# Altium footprint library PcbLib.PcbLib: 2 footprints
Each footprint in its own frame and in the unit in brackets; x right, y up, seen from the top. Pads: shape width x height; smd on the part's side, far side on the other; paste and mask are expansions set on the pad; w line width, h text height; cw(c..) or ccw(c..) is an arc to the next point about the centre after c.
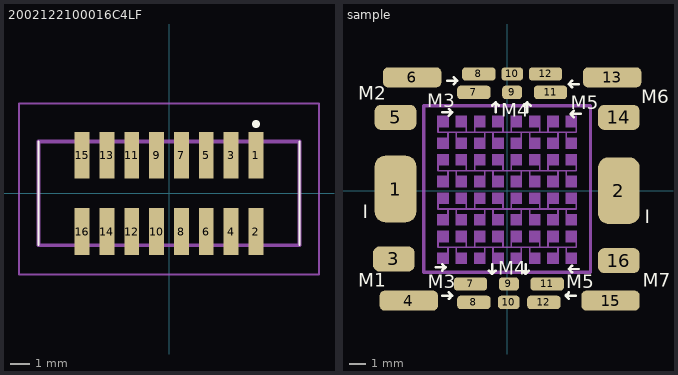
[diagram p0: the footprints below, top view; thin cyan lines are the x and y axes]

## 2002122100016C4LF [mm]
pads (16):
  rect 0.76x2.4 smd: 1(4.445,1.95) 2(4.445,-1.95) 3(3.175,1.95) 4(3.175,-1.95) 5(1.905,1.95) 6(1.905,-1.95) 7(0.635,1.95) 8(0.635,-1.95) 9(-0.635,1.95) 10(-0.635,-1.95) 11(-1.905,1.95) 12(-1.905,-1.95) 13(-3.175,1.95) 14(-3.175,-1.95) 15(-4.445,1.95) 16(-4.445,-1.95)
Top Overlay:
  lines w0.1: -6.67,-2.65 -6.67,2.65 ; 6.67,-2.65 6.67,2.65
  lines w0.3: 4.445,3.5 cw(c4.445,3.55) 4.445,3.6 cw(c4.445,3.55) 4.445,3.5
Mechanical 13:
  lines w0.2: -6.67,-2.65 -6.67,2.65 6.67,2.65 6.67,-2.65 -6.67,-2.65
Mechanical 15:
  lines w0.1: -7.67,-4.15 -7.67,4.6 7.67,4.6 7.67,-4.15 -7.67,-4.15
3D body "20021221-00016C4LF.stp": height 5.9, standoff 0, extent -6.67,-3.074 6.67,3.074

## sample [mm]
pads (22):
  rrect50% 2.5x4 smd: 1(-6.7,0.1) 2(6.7,0)
  rrect50% 2.5x1.5 smd: 3(-6.8,-4.1) 5(-6.7,4.4) 14(6.7,4.4) 16(6.7,-4.2)
  rrect50% 3.5x1.2 smd: 4(-5.9,-6.6) 6(-5.7,6.8) 13(6.3,6.8) 15(6.2,-6.6)
  rrect50% 2x0.8 smd: 7(-2.2,-5.6) 7(-2,5.9) 8(-2,-6.7) 8(-1.7,7) 11(2.4,-5.6) 11(2.6,5.9) 12(2.2,-6.7) 12(2.3,7)
  rrect50% 1.2x0.8 smd: 9(0.1,-5.6) 9(0.3,5.9)
  rrect50% 1.3x0.8 smd: 10(0.1,-6.7) 10(0.3,7)
Top Overlay:
  lines w0.15: -4.3,-4.6 -3.7,-4.6 ; -3.9,-6.3 -3.3,-6.3 ; -3.9,-4.8 -3.7,-4.6 ; -3.9,-4.4 -3.7,-4.6 ; -3.9,4.7 -3.3,4.7 ; -3.6,6.6 -3,6.6 ; -3.5,-6.5 -3.3,-6.3 ; -3.5,-6.1 -3.3,-6.3 ; -3.5,4.5 -3.3,4.7 ; -3.5,4.9 -3.3,4.7 ; -3.2,6.4 -3,6.6 ; -3.2,6.8 -3,6.6 ; -1.1,-4.8 -0.9,-5 ; -0.9,-4.4 -0.9,-5 ; -0.9,5.1 -0.7,5.3 ; -0.7,-4.8 -0.9,-5 ; -0.7,4.7 -0.7,5.3 ; -0.5,5.1 -0.7,5.3 ; 0.9,-4.8 1.1,-5 ; 1,5.1 1.2,5.3 ; 1.1,-4.4 1.1,-5 ; 1.2,4.7 1.2,5.3 ; 1.3,-4.8 1.1,-5 ; 1.4,5.1 1.2,5.3 ; 3.7,-6.5 3.5,-6.3 ; 3.7,-6.1 3.5,-6.3 ; 3.9,-4.9 3.7,-4.7 ; 3.9,-4.5 3.7,-4.7 ; 3.9,6.2 3.7,6.4 ; 3.9,6.6 3.7,6.4 ; 4,4.4 3.8,4.6 ; 4,4.8 3.8,4.6 ; 4.1,-6.3 3.5,-6.3 ; 4.3,-4.7 3.7,-4.7 ; 4.3,6.4 3.7,6.4 ; 4.4,4.6 3.8,4.6
  text "M5" at 3.55,-5.85 h0.8
  text "M7" at 8.15,-5.75 h0.8
  text "M6" at 8.05,5.25 h0.8
  text "M4" at -0.35,4.45 h0.8
  text "M3" at -4.792,5.016 h0.8
  text "M1" at -8.95,-5.75 h0.8
  text "M2" at -8.95,5.45 h0.8
  text "M3" at -4.75,-5.85 h0.8
  text "M4" at -0.55,-5.05 h0.8
  text "M5" at 3.8,4.9 h0.8
  text "I" at -8.65,-1.65 h0.8
  text "I" at 8.25,-1.95 h0.8
Mechanical 13:
  lines w0.2: -5,-4.9 5,-4.9 5,5.1 -5,5.1 -5,-4.9
Mechanical 15:
  rectangle: 2.4,3.8 3.1,4.5
  rectangle: 3.5,-3.1 4.2,-2.4
  rectangle: 3.5,-4.4 4.2,-3.7
  rectangle: -4.2,-3.1 -3.5,-2.4
  rectangle: -2,-3.1 -1.3,-2.4
  rectangle: -4.2,-4.4 -3.5,-3.7
  rectangle: -2,-4.4 -1.3,-3.7
  rectangle: 2.4,-3.1 3.1,-2.4
  rectangle: 2.4,-4.4 3.1,-3.7
  rectangle: 0.2,-3.1 0.9,-2.4
  rectangle: 1.3,-3.1 2,-2.4
  rectangle: 0.2,-4.4 0.9,-3.7
  rectangle: 1.3,-4.4 2,-3.7
  rectangle: -0.9,-3.1 -0.2,-2.4
  rectangle: -0.9,-4.4 -0.2,-3.7
  rectangle: -3.1,-3.1 -2.4,-2.4
  rectangle: -3.1,-4.4 -2.4,-3.7
  rectangle: 3.5,-0.8 4.2,-0.1
  rectangle: 3.5,-2.1 4.2,-1.4
  rectangle: -4.2,-0.8 -3.5,-0.1
  rectangle: -2,-0.8 -1.3,-0.1
  rectangle: -4.2,-2.1 -3.5,-1.4
  rectangle: -2,-2.1 -1.3,-1.4
  rectangle: 2.4,-0.8 3.1,-0.1
  rectangle: 2.4,-2.1 3.1,-1.4
  rectangle: 0.2,-0.8 0.9,-0.1
  rectangle: 1.3,-0.8 2,-0.1
  rectangle: 0.2,-2.1 0.9,-1.4
  rectangle: 1.3,-2.1 2,-1.4
  rectangle: -0.9,-0.8 -0.2,-0.1
  rectangle: -0.9,-2.1 -0.2,-1.4
  rectangle: -3.1,-0.8 -2.4,-0.1
  rectangle: -3.1,-2.1 -2.4,-1.4
  rectangle: 3.5,1.5 4.2,2.2
  rectangle: 3.5,0.2 4.2,0.9
  rectangle: -4.2,1.5 -3.5,2.2
  rectangle: -2,1.5 -1.3,2.2
  rectangle: -4.2,0.2 -3.5,0.9
  rectangle: -2,0.2 -1.3,0.9
  rectangle: 2.4,1.5 3.1,2.2
  rectangle: 2.4,0.2 3.1,0.9
  rectangle: 0.2,1.5 0.9,2.2
  rectangle: 1.3,1.5 2,2.2
  rectangle: 0.2,0.2 0.9,0.9
  rectangle: 1.3,0.2 2,0.9
  rectangle: -0.9,1.5 -0.2,2.2
  rectangle: -0.9,0.2 -0.2,0.9
  rectangle: -3.1,1.5 -2.4,2.2
  rectangle: -3.1,0.2 -2.4,0.9
  rectangle: 3.5,3.8 4.2,4.5
  rectangle: 3.5,2.5 4.2,3.2
  rectangle: -4.2,3.8 -3.5,4.5
  rectangle: -2,3.8 -1.3,4.5
  rectangle: -4.2,2.5 -3.5,3.2
  rectangle: -2,2.5 -1.3,3.2
  rectangle: 2.4,2.5 3.1,3.2
  rectangle: 0.2,3.8 0.9,4.5
  rectangle: 1.3,3.8 2,4.5
  rectangle: 0.2,2.5 0.9,3.2
  rectangle: 1.3,2.5 2,3.2
  rectangle: -0.9,3.8 -0.2,4.5
  rectangle: -0.9,2.5 -0.2,3.2
  rectangle: -3.1,3.8 -2.4,4.5
  rectangle: -3.1,2.5 -2.4,3.2
  lines w0.1: -4.15,-3.1 -4.15,-3.4 4.15,-3.4 4.15,-3.1 ; -4.15,-0.8 -4.15,-1.1 4.15,-1.1 4.15,-0.8 ; -4.15,1.5 -4.15,1.2 4.15,1.2 4.15,1.5 ; -4.15,3.8 -4.15,3.5 4.15,3.5 4.15,3.8 ; -3.55,-3.7 -3.55,-3.4 ; -3.55,-1.4 -3.55,-1.1 ; -3.55,0.9 -3.55,1.2 ; -3.55,3.2 -3.55,3.5 ; -3.05,-3.7 -3.05,-3.4 ; -3.05,-1.4 -3.05,-1.1 ; -3.05,0.9 -3.05,1.2 ; -3.05,3.2 -3.05,3.5 ; -2.45,-3.4 -2.45,-3.1 ; -2.45,-1.1 -2.45,-0.8 ; -2.45,1.2 -2.45,1.5 ; -2.45,3.5 -2.45,3.8 ; -1.95,-3.4 -1.95,-3.1 ; -1.95,-1.1 -1.95,-0.8 ; -1.95,1.2 -1.95,1.5 ; -1.95,3.5 -1.95,3.8 ; -1.35,-3.7 -1.35,-3.4 ; -1.35,-1.4 -1.35,-1.1 ; -1.35,0.9 -1.35,1.2 ; -1.35,3.2 -1.35,3.5 ; -0.85,-3.7 -0.85,-3.4 ; -0.85,-1.4 -0.85,-1.1 ; -0.85,0.9 -0.85,1.2 ; -0.85,3.2 -0.85,3.5 ; -0.25,-3.4 -0.25,-3.1 ; -0.25,-1.1 -0.25,-0.8 ; -0.25,1.2 -0.25,1.5 ; -0.25,3.5 -0.25,3.8 ; 0.25,-3.4 0.25,-3.1 ; 0.25,-1.1 0.25,-0.8 ; 0.25,1.2 0.25,1.5 ; 0.25,3.5 0.25,3.8 ; 0.85,-3.7 0.85,-3.4 ; 0.85,-1.4 0.85,-1.1 ; 0.85,0.9 0.85,1.2 ; 0.85,3.2 0.85,3.5 ; 1.35,-3.7 1.35,-3.4 ; 1.35,-1.4 1.35,-1.1 ; 1.35,0.9 1.35,1.2 ; 1.35,3.2 1.35,3.5 ; 1.95,-3.4 1.95,-3.1 ; 1.95,-1.1 1.95,-0.8 ; 1.95,1.2 1.95,1.5 ; 1.95,3.5 1.95,3.8 ; 2.45,-3.4 2.45,-3.1 ; 2.45,-1.1 2.45,-0.8 ; 2.45,1.2 2.45,1.5 ; 2.45,3.5 2.45,3.8 ; 3.05,-3.7 3.05,-3.4 ; 3.05,-1.4 3.05,-1.1 ; 3.05,0.9 3.05,1.2 ; 3.05,3.2 3.05,3.5 ; 3.55,-3.7 3.55,-3.4 ; 3.55,-1.4 3.55,-1.1 ; 3.55,0.9 3.55,1.2 ; 3.55,3.2 3.55,3.5
3D body: height 1, standoff 0, extent -5,-4.9 5,5.1